# Altium integrated library Motherboard_CMOS_MTJ_Biochip_v1.IntLib: 24 symbols
Pins are listed as number, name and electrical type; pins without a type are passive.

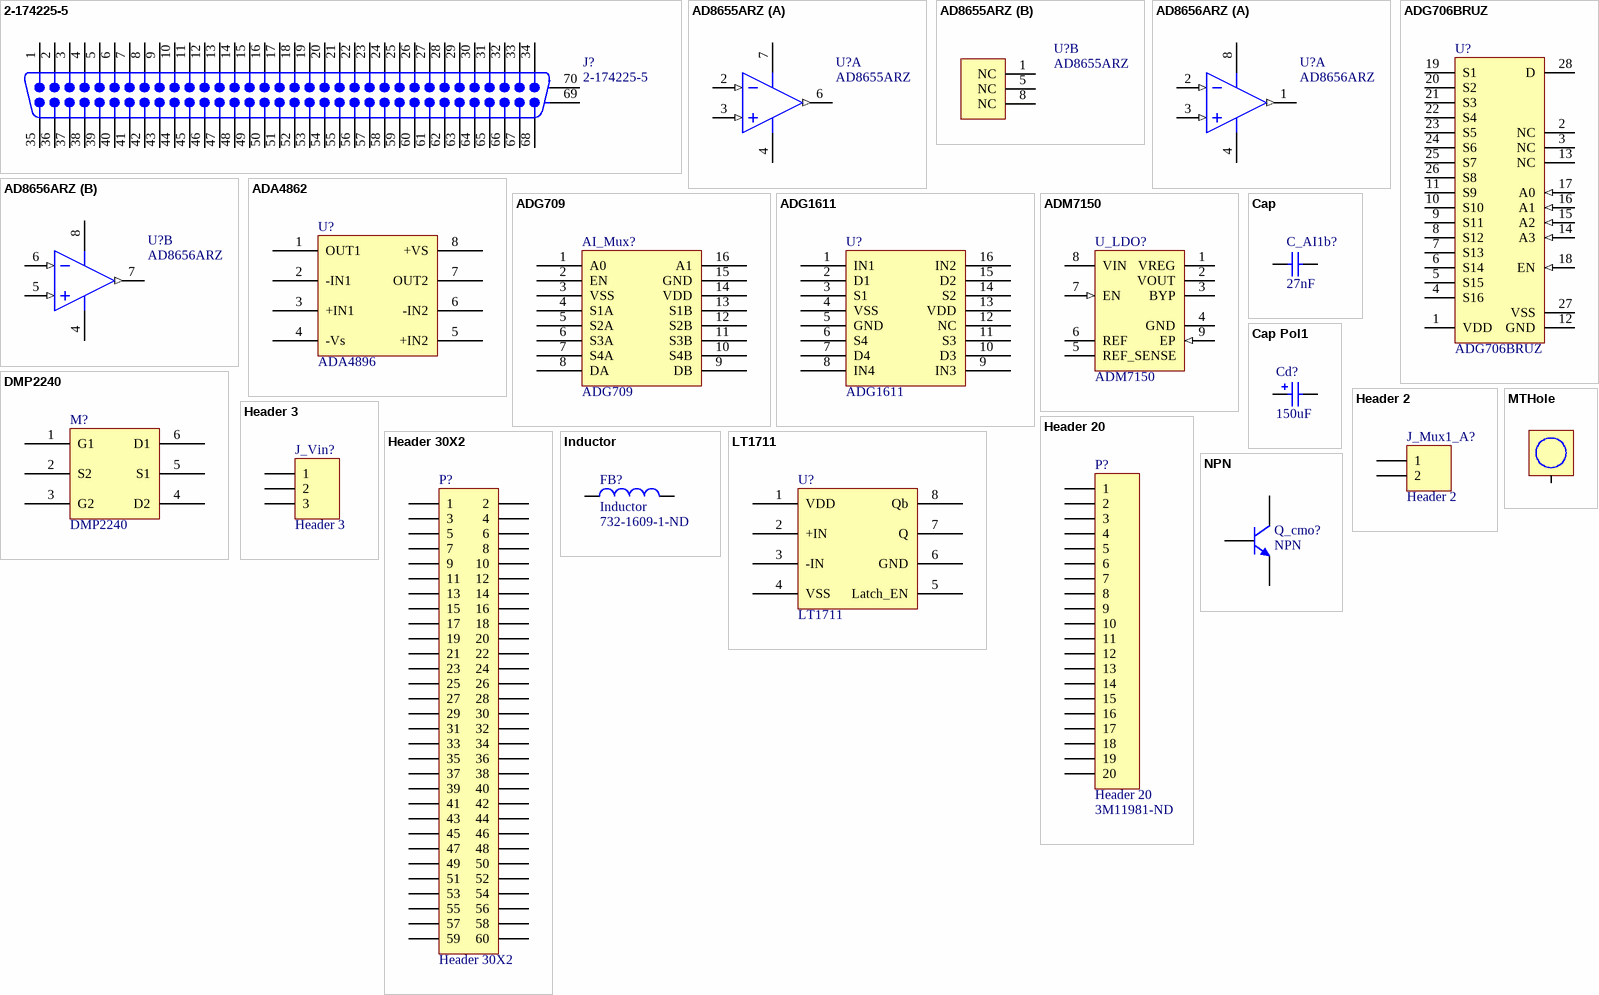
[diagram p0: symbols 2-174225-5 to NPN]

## 2-174225-5
designator J?
Cap Header, Right Angle /M2.5 AMPLIMITE 050 Series II; Positions: 68; Gender: Plug Header; Note: With Mating Lock; PCB_Layout: Complies with manufacturer's recommendation.; DrillSize: Corresponds to nominal value.; Published: 17-Jul-2002; DatasheetDocument: May-1991; PackageDocument: 23-May-1991; PackageReference: 2-174225-5; Publisher: Altium Limited; Orientation: Right Angle; Note: Series II; ComponentLink1Description: Manufacturer Link; ComponentLink1URL: http://www.tycoelectronics.com/; ComponentLink2Description: Packaging Specification; ComponentLink2URL: http://ecommas.tycoelectronics.com/commerce/DocumentDelivery/DDEController?Action=showdoc&DocId=Customer+Drawing%7F174225%7FD%7Fpdf%7FJapanese%7FJPN_CD_174225_D.pdf; ComponentLink3Description: Iges Model; ComponentLink3URL: http://catalog.tycoelectronics.com/TE/docs/cadgeo/0/91/40190.tar.gz
footprint 2-174225-5 (Connector; D Subminiature 050 Series; 68 Position; Right Angle)
signal-integrity model D Subminiature
pins: 1, 2, 3, 4, 5, 6, 7, 8, 9, 10, 11, 12, 13, 14, 15, 16, 17, 18, 19, 20, 21, 22, 23, 24, 25, 26, 27, 28, 29, 30, 31, 32, 33, 34, 35, 36, 37, 38, 39, 40, 41, 42, 43, 44, 45, 46, 47, 48, 49, 50, 51, 52, 53, 54, 55, 56, 57, 58, 59, 60, 61, 62, 63, 64, 65, 66, 67, 68, 69 MH1, 70 MH2

## AD8655ARZ
designator U?
Single Channel Low Offset Voltage Operational Amplifier, 28 MHz BW, 11 V/us SR, Industrial, 8-pin SOIC (R-8), Tube; Generic Part Number: AD8655; Manufacturer: Analog Devices; Amplifiers Per Package: 1; Input Bias Current: 1pA; Input Offset Voltage: 50uV; Iq/Amp: 4.5mA; Slew Rate: 11V/us; Small Signal Bandwidth: 28MHz; V Span Max: 5.5V; V Span Min: 2.7V; DatasheetVersion: Rev. B; PackageVersion: 060506-A; PackageReference: R-8; PackageDescription: 8-Pin Standard Small Outline Package, Body 3.9 x 4.9 mm, Pitch 1.27 mm; Supplier 1: Digi-Key; Supplier Part Number 1: AD8655ARZ-ND; Supplier 2: Newark; Supplier Part Number 2: 59K7052; Mounting Technology: Surface Mount; Code_JEDEC: MS-012-AA; PartNumber: AD8655ARZ; ComponentLink1Description: Manufacturer URL; ComponentLink1URL: http://www.analog.com/en/index.html; ComponentLink2Description: Datasheet; ComponentLink2URL: http://www.analog.com/static/imported-files/data_sheets/AD8655_8656.pdf; ComponentLink3Description: Package Specification; ComponentLink3URL: http://www.analog.com/static/imported-files/packages/PKG_PDF/SOIC_Narrow%20(R)/R_8.pdf; ComponentLink4Description: Reference Circuit; ComponentLink4URL: http://www.analog.com/en/all-operational-amplifiers-op-amps/operational-amplifiers-op-amps/ad8655/products/product.html#product-recommendations
footprint ADI-R-8_N (SOIC, 8-Leads, Body 4.9x3.9mm, Pitch 1.27mm, IPC Medium Density)
footprint ADI-R-8_L (SOIC, 8-Leads, Body 4.9x3.9mm, Pitch 1.27mm, IPC High Density)
footprint ADI-R-8_M (SOIC, 8-Leads, Body 4.9x3.9mm, Pitch 1.27mm, IPC Low Density)
part A pins: 2 -IN (in), 3 +IN (in), 4 -V (power), 6 OUT (out), 7 +V (power)
part B pins: 1 NC, 5 NC, 8 NC

## AD8656ARZ
designator U?
Double Channel RRIO Operational Amplifier, 28 MHz BW, 11 V/us SR, Industrial, 8-pin SOIC (R-8), Tube; Generic Part Number: AD8656; Manufacturer: Analog Devices; Amplifiers Per Package: 2; Automotive Qualified: Yes; Input Bias Current: 1pA; Input Offset Voltage: 50uV; Iq/Amp: 4.5mA; Slew Rate: 11V/us; Small Signal Bandwidth: 28MHz; V Span Max: 5.5V; V Span Min: 2.7V; DatasheetVersion: Rev. B; PackageVersion: 060506-A; PackageReference: R-8; PackageDescription: 8-Pin Standard Small Outline Package, Body 3.9 x 4.9 mm, Pitch 1.27 mm; Supplier 1: Digi-Key; Supplier Part Number 1: AD8656ARZ-ND; Supplier 2: Farnell; Supplier Part Number 2: 1117887; Supplier 3: Newark; Supplier Part Number 3: 19M0993; Mounting Technology: Surface Mount; Code_JEDEC: MS-012-AA; PartNumber: AD8656ARZ; ComponentLink1Description: Manufacturer URL; ComponentLink1URL: http://www.analog.com/en/index.html; ComponentLink2Description: Datasheet; ComponentLink2URL: http://www.analog.com/static/imported-files/data_sheets/AD8655_8656.pdf; ComponentLink3Description: Package Specification; ComponentLink3URL: http://www.analog.com/static/imported-files/packages/PKG_PDF/SOIC_Narrow%20(R)/R_8.pdf
footprint ADI-R-8_N (SOIC, 8-Leads, Body 4.9x3.9mm, Pitch 1.27mm, IPC Medium Density)
footprint ADI-R-8_L (SOIC, 8-Leads, Body 4.9x3.9mm, Pitch 1.27mm, IPC High Density)
footprint ADI-R-8_M (SOIC, 8-Leads, Body 4.9x3.9mm, Pitch 1.27mm, IPC Low Density)
pins on every part: 4 -V (power), 8 +V (power)
part A pins: 1 OUT A (out), 2 -IN A (in), 3 +IN A (in)
part B pins: 5 +IN B (in), 6 -IN B (in), 7 OUT B (out)

## ADA4862
designator U?, comment ADA4896
footprint RM-8 (Shrink Small Outline, MSOP; 8 Leads; Body Width 3 mm; Pitch 0.65 mm)
pins: 1 OUT1, 2 -IN1, 3 +IN1, 4 -Vs, 5 +IN2, 6 -IN2, 7 OUT2, 8 +VS

## ADG706BRUZ
designator U?
1.8 to 5.5 V / 2.5 V, CMOS Low-Voltage 2.5 Ohm, 16-Channel Multiplexer, -40 to 85 degC, 28-pin SOP (RU-28), Tube; Manufacturer: Analog Devices; Bandwidth (Hz): 25M; Max Analog Signal Range: Vss to Vdd; Ron (ohms): 2.5; Supply V Guar Performance: Dual_(+/-2.5V), Single_(+3V), Single_(+5V); t transition (s): 40n; DatasheetVersion: Rev. A; PackageVersion: Mar-05; PackageReference: RU-28; PackageDescription: 28-Pin Thin Shrink Small Outline Package, Body 9.7 x 4.4 mm, Pitch 0.65 mm; Supplier 1: Digi-Key; Supplier Part Number 1: ADG706BRUZ-ND; Supplier 2: Farnell; Supplier Part Number 2: 9604332; Supplier 3: Newark; Supplier Part Number 3: 19M0682; Supplier 4: Mouser; Supplier Part Number 4: 584-ADG706BRUZ; Packing: Tube; Mounting Technology: Surface Mount; Code_JEDEC: MO-153-AE; PartNumber: ADG706BRUZ; ComponentLink1Description: Manufacturer URL; ComponentLink1URL: http://www.analog.com/en/index.html; ComponentLink2Description: Datasheet; ComponentLink2URL: http://www.analog.com/static/imported-files/data_sheets/ADG706_707.pdf; ComponentLink3Description: Package Specification; ComponentLink3URL: http://www.analog.com/static/imported-files/packages/249854663RU_28.pdf
footprint ADI-RU-28_N (SOP, 28-Leads, Body 9.7x4.4mm, Pitch 0.65mm, IPC Medium Density)
footprint ADI-RU-28_L (SOP, 28-Leads, Body 9.7x4.4mm, Pitch 0.65mm, IPC High Density)
footprint ADI-RU-28_M (SOP, 28-Leads, Body 9.7x4.4mm, Pitch 0.65mm, IPC Low Density)
pins: 1 VDD (power) "Most Positive Power Supply Potential.", 2 NC "No Connect.", 3 NC "No Connect.", 4 S16 "Source Terminal 16. Can be an input or an output.", 5 S15 "Source Terminal 15. Can be an input or an output.", 6 S14 "Source Terminal 14. Can be an input or an output.", 7 S13 "Source Terminal 13. Can be an input or an output.", 8 S12 "Source Terminal 12. Can be an input or an output.", 9 S11 "Source Terminal 11. Can be an input or an output.", 10 S10 "Source Terminal 10. Can be an input or an output.", 11 S9 "Source Terminal 9. Can be an input or an output.", 12 GND (power) "Ground (0 V) Reference.", 13 NC "No Connect.", 14 A3 (in) "Logic Control Input.", 15 A2 (in) "Logic Control Input.", 16 A1 (in) "Logic Control Input.", 17 A0 (in) "Logic Control Input.", 18 EN (in) "Active High Digital Input. When this pin is low, the device is disabled and all switches are turned off. When this pin is high, the Ax logic inputs determine which switch is turned on.", 19 S1 "Source Terminal 1. Can be an input or an output.", 20 S2 "Source Terminal 2. Can be an input or an output.", 21 S3 "Source Terminal 3. Can be an input or an output.", 22 S4 "Source Terminal 4. Can be an input or an output.", 23 S5 "Source Terminal 5. Can be an input or an output.", 24 S6 "Source Terminal 6. Can be an input or an output.", 25 S7 "Source Terminal 7. Can be an input or an output.", 26 S8 "Source Terminal 8. Can be an input or an output.", 27 VSS (power) "Most Negative Power Supply Potential. In single-supply applications, this pin can be connected to ground.", 28 D "Drain Terminal. Can be an input or an output."

## ADG709
designator AI_Mux?
footprint RU-16 (Shrink Small Outline; 16 Leads; Body Width 4.4 mm; Pitch 0.65 mm)
pins: 1 A0, 2 EN, 3 VSS, 4 S1A, 5 S2A, 6 S3A, 7 S4A, 8 DA, 9 DB, 10 S4B, 11 S3B, 12 S2B, 13 S1B, 14 VDD, 15 GND, 16 A1

## ADG1611
designator U?
footprint RU-16 (Shrink Small Outline; 16 Leads; Body Width 4.4 mm; Pitch 0.65 mm)
pins: 1 IN1, 2 D1, 3 S1, 4 VSS, 5 GND, 6 S4, 7 D4, 8 IN4, 9 IN3, 10 D3, 11 S3, 12 NC, 13 VDD, 14 S2, 15 D2, 16 IN2

## ADM7150
designator U_LDO?
800 mA Ultralow Noise, High PSRR, RF Linear Regulator; Manufacturer: Analog Devices; PartNumber: ADP1707ARDZ-3.3-R7; Iout max: 1A; Packing: Reel; Preset Vout Values (V): 1.8; Supply Current IGND @ Small Load: 50uA; Vin (max) (V): 5.5; Vin (min) (V): 2.5; DatasheetVersion: Rev. 0; PackageVersion: Jan-05; PackageReference: RD-8-2; PackageDescription: 8-Pin Standard Small Outline Package, Body 4.9 x 3.9 mm, Pitch 1.27 mm; Supplier 1: Digi-Key; Supplier Part Number 1: ADP1707ARDZ-3.3-R7TR-ND; Supplier 2: Digi-Key; Supplier Part Number 2: ADP1707ARDZ-3.3-R7CT-ND; Supplier 3: Digi-Key; Supplier Part Number 3: ADP1707ARDZ-3.3-R7DKR-ND; Supplier 4: Mouser; Supplier Part Number 4: 584-ADP1707ARDZ3.3R7; Mounting Technology: Surface Mount; Code_JEDEC: MS-012-AA; ComponentLink1Description: Manufacturer URL; ComponentLink1URL: http://www.analog.com/en/index.html; ComponentLink2Description: Datasheet; ComponentLink2URL: http://www.analog.com/static/imported-files/data_sheets/ADP1706_1707_1708.pdf; ComponentLink3Description: Package Specification; ComponentLink3URL: http://www.analog.com/static/imported-files/packages/62062404671038RD_8_2.pdf; ComponentLink4Description: URL Link1; ComponentLink4URL: Product URL:http://www.analog.com/en/ADP1707/productSearch.html
footprint ADM7150
pins: 1 VREG "Regulated Output Voltage. Bypass VOUT to GND with a 1 uF or greater capacitor.", 2 VOUT "Regulated Output Voltage. Bypass VOUT to GND with a 1 uF or greater capacitor.", 3 BYP "Feedback Node for the Error Amplifier. Connect the midpoint of an external divider from VOUT to GND to this pin to set the output voltage", 4 GND "Ground.", 5 REF_SENSE "Regulator Input Supply. Bypass VIN to GND with a 1 uF or greater capacitor.", 6 REF "No Connect. This pin is not connected internally.", 7 EN (in) "Enable Input. Drive EN high to turn on the regulator; drive EN low to turn off the regulator. For automatic startup, connect EN to VIN.", 8 VIN "Regulator Input Supply. Bypass VIN to GND with a 1 uF or greater capacitor.", 9 EP (in) "The exposed pad must be connected to ground."

## Cap
designator C_AI1b?  value 27nF  (hidden comment: Cap)
Capacitor; Published: 8-Jun-2000; LatestRevisionDate: 17-Jul-2002; LatestRevisionNote: Re-released for DXP Platform.; PackageReference: RAD-0.3; Publisher: Altium Limited; PackageDescription: Radial Cap, Thru-Hole; 2 Leads; 0.3 in Pin Spacing; Digi-Key: 445-7534-1-ND
footprint RAD-0.3 (Radial Cap, Thru-Hole; 2 Leads; 0.3 in Pin Spacing)
simulation model CAP (Capacitor)
signal-integrity model Cap
footprint 6-0805_M
footprint 1608[0603] (Chip Capacitor, Body 1.6x0.8mm, IPC High Density)
pins: 1, 2

## Cap Pol1
designator Cd?  value 150uF  (hidden comment: Cap Pol1)
Polarized Capacitor (Radial); Published: 8-Jun-2000; LatestRevisionDate: 17-Jul-2002; LatestRevisionNote: Re-released for DXP Platform.; PackageReference: RB7.6-15; Publisher: Altium Limited; PackageDescription: Polarized Capacitor (Radial); 2 Leads; Digikey PN: 478-3349-1-ND
footprint C1210_M (Chip Capacitor, Body 3.2x2.5mm, IPC Low Density)
simulation model CAP (Capacitor)
signal-integrity model Cap Pol
pins: 1, 2
1 alternate drawing of the same symbol

## DMP2240
designator M?
footprint SO-G6/E2.4 (Small Outline; 6 Leads; Body 3.6 x 3.6 mm, inc. leads (LxW max))
pins: 1 G1, 2 S2, 3 G2, 4 D2, 5 S1, 6 D1

## Header 2
designator J_Mux1_A?
Header, 2-Pin; LatestRevisionDate: 17-Jul-2002; LatestRevisionNote: Re-released for DXP Platform.; Publisher: Altium Limited
footprint HDR1X2 (Connector; Header; 2 Position)
signal-integrity model Connector
pins: 1, 2

## Header 3
designator J_Vin?
Header, 3-Pin; LatestRevisionDate: 17-Jul-2002; LatestRevisionNote: Re-released for DXP Platform.; Publisher: Altium Limited
footprint HDR1X3 (Connector; Header; 3 Position)
signal-integrity model Connector
pins: 1, 2, 3

## Header 20
designator P?  Supplier Part Number 1: 3M11981-ND
Header, 20-Pin; Manufacturer: 3M; Manufacturer Part Number: N3428-6203RB; Connector Type: Header, Shrouded; Number of Positions: 20; Number of Positions Loaded: All; Pitch: 0.100" (2.54mm); LatestRevisionDate: 17-Jul-2002; LatestRevisionNote: Re-released for DXP Platform.; Publisher: Altium Limited; Supplier 1: Digi-Key; RoHS: RoHS Compliant; Category: Connectors, Interconnects; Stock 1: 110; Pricing 1: 1=3.25, 10=3.12, 25=2.86, 50=2.73, 100=2.6, 250=2.275, 500=2.21, 1000=1.885, 2500=1.755 (USD); Packaging: Bulk; Contact Type: Male Pin; Number of Rows: 2; Row Spacing: 0.100" (2.54mm); Contact Mating Length: 0.240" (6.10mm); Mounting Type: Through Hole; Termination: Solder; Fastening Type: Latch, Short/Eject Hooks; Features: -; Contact Finish: Gold; Contact Finish Thickness: 30µin (0.76µm); Color: Black; ComponentLink1URL: http://multimedia.3m.com/mws/mediawebserver?66666UuZjcFSLXTt4Xfym8s6EVuQEcuZgVs6EVs6E666666--; ComponentLink1Description: http://multimedia.3m.com/mws/mediawebserver?66666UuZjcFSLXTt4Xfym8s6EVuQEcuZgVs6EVs6E666666--
footprint HDR2X10 (Connector; Header; 10x2 Position)
signal-integrity model Connector
pins: 1, 2, 3, 4, 5, 6, 7, 8, 9, 10, 11, 12, 13, 14, 15, 16, 17, 18, 19, 20

## Header 30X2
designator P?
Header, 30-Pin, Dual row; LatestRevisionDate: 17-Jul-2002; LatestRevisionNote: Re-released for DXP Platform.; Publisher: Altium Limited
footprint HDR2X30 (Connector; Header; 30x2 Position)
signal-integrity model Connector
pins: 1, 2, 3, 4, 5, 6, 7, 8, 9, 10, 11, 12, 13, 14, 15, 16, 17, 18, 19, 20, 21, 22, 23, 24, 25, 26, 27, 28, 29, 30, 31, 32, 33, 34, 35, 36, 37, 38, 39, 40, 41, 42, 43, 44, 45, 46, 47, 48, 49, 50, 51, 52, 53, 54, 55, 56, 57, 58, 59, 60

## Inductor
designator FB?  Supplier Part Number 1: 732-1609-1-ND
Manufacturer: Wurth Electronics Inc; Manufacturer Part Number: 742792093; Code_IEC: 1005; Value: 10mH; Impedance @ Frequency: 2.2 kOhm @ 100MHz; Current Rating: 200mA; DC Resistance (DCR): 600 mOhm Max; Filter Type: Differential Mode - Single; Published: 8-Jun-2000; LatestRevisionDate: 29-May-2009; LatestRevisionNote: IPC-7351 Footprint Added.; PackageReference: 0402-A; Publisher: Altium Limited; PackageDescription: Chip Inductor; Code_JEITA: 0402; Supplier 1: Digi-Key; RoHS: RoHS Compliant; Category: Filters; Stock 1: 48274; Pricing 1: 1=0.23, 50=0.2188, 100=0.2013, 500=0.1925, 1000=0.18375, 2000=0.175 (USD); Packaging: Cut Tape (CT); Package / Case: 0805 (2012 Metric); Mounting Type: Surface Mount; Height (Max): 0.043" (1.10mm); Size / Dimension: 0.079" L x 0.047" W (2.00mm x 1.20mm); ComponentLink1URL: http://katalog.we-online.de/pbs/datasheet/742792093.pdf; ComponentLink1Description: http://katalog.we-online.de/pbs/datasheet/742792093.pdf
footprint 0402-A (Chip Inductor, Body 1.0x0.5mm, IPC High Density)
footprint INDC1608L (Chip Inductor, Body 1.6x0.8mm, IPC High Density)
footprint 2029 (Chip Inductor, Body 2.0x1.2mm, IPC High Density)
footprint 0603 (Chip Inductor, Body 0.6x0.3mm, IPC High Density)
footprint INDC3216 (Chip Inductor, Body 3.2x1.6mm, IPC High Density)
footprint INDC4532 (Chip Inductor, Body 4.5x3.2mm, IPC High Density)
simulation model INDUCTOR (Inductor)
signal-integrity model Inductor
footprint C0805 (Chip Capacitor, Body 2.0x1.3mm, IPC High Density)
pins: 1, 2

## LT1711
designator U?
footprint RM-8 (Shrink Small Outline, MSOP; 8 Leads; Body Width 3 mm; Pitch 0.65 mm)
pins: 1 VDD, 2 +IN, 3 -IN, 4 VSS, 5 Latch_EN, 6 GND, 7 Q, 8 Qb

## MTHole
designator H?, comment Mounting Hole  (value not drawn)
footprint MTHole
pins: 1

## NPN
designator Q_cmo?
NPN Bipolar Transistor; Published: 8-Jun-2000; LatestRevisionDate: 17-Jul-2002; LatestRevisionNote: Re-released for DXP Platform.; PackageReference: TO-226-AA; Publisher: Altium Limited; PackageDescription: TO, Flat Index; 3 In-Line, Axial Leads; Body Dia. 4.8mm; Leads 0.55 x 0.51 mm (max); Code_JEDEC: TO-226-AA
footprint SOT-23_M (SOT23, 3-Leads, Body 2.9x1.3mm, Pitch 0.95mm, Lead Span 2.5mm, IPC Low Density); pin to pad 1>3 2>1 3>2
simulation model NPN
signal-integrity model NPN
pins: 1 C, 2 B, 3 E

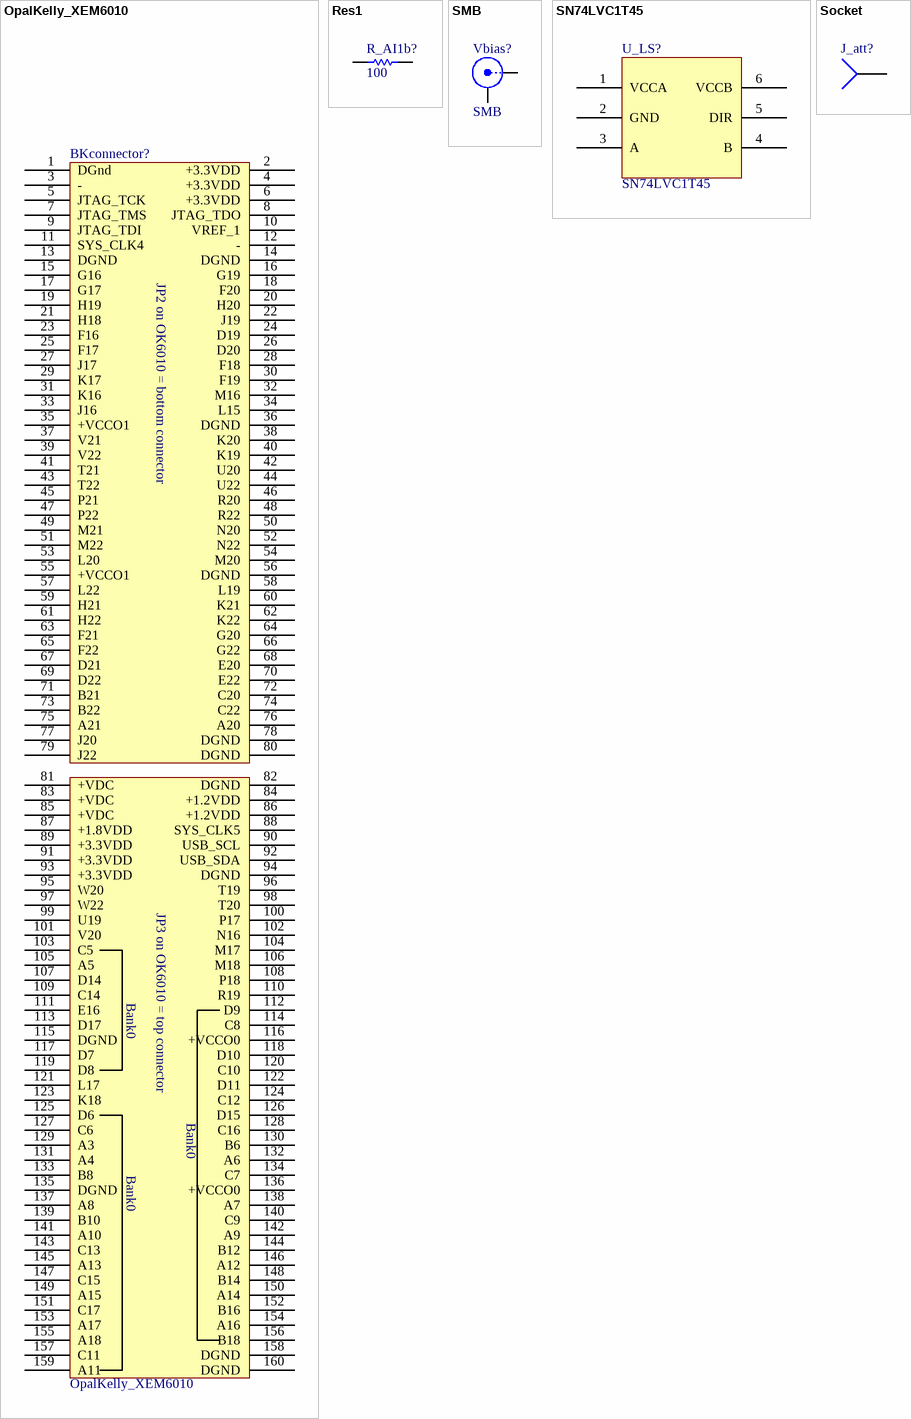
[diagram p1: symbols OpalKelly_XEM6010 to Socket]

## OpalKelly_XEM6010
designator BKconnector?
footprint OpalKelly_XEM6010
pins: 1 DGnd, 2 +3.3VDD, 3 -, 4 +3.3VDD, 5 JTAG_TCK, 6 +3.3VDD, 7 JTAG_TMS, 8 JTAG_TDO, 9 JTAG_TDI, 10 VREF_1, 11 SYS_CLK4, 12 -, 13 DGND, 14 DGND, 15 G16, 16 G19, 17 G17, 18 F20, 19 H19, 20 H20, 21 H18, 22 J19, 23 F16, 24 D19, 25 F17, 26 D20, 27 J17, 28 F18, 29 K17, 30 F19, 31 K16, 32 M16, 33 J16, 34 L15, 35 +VCCO1, 36 DGND, 37 V21, 38 K20, 39 V22, 40 K19, 41 T21, 42 U20, 43 T22, 44 U22, 45 P21, 46 R20, 47 P22, 48 R22, 49 M21, 50 N20, 51 M22, 52 N22, 53 L20, 54 M20, 55 +VCCO1, 56 DGND, 57 L22, 58 L19, 59 H21, 60 K21, 61 H22, 62 K22, 63 F21, 64 G20, 65 F22, 66 G22, 67 D21, 68 E20, 69 D22, 70 E22, 71 B21, 72 C20, 73 B22, 74 C22, 75 A21, 76 A20, 77 J20, 78 DGND, 79 J22, 80 DGND, 81 +VDC, 82 DGND, 83 +VDC, 84 +1.2VDD, 85 +VDC, 86 +1.2VDD, 87 +1.8VDD, 88 SYS_CLK5, 89 +3.3VDD, 90 USB_SCL, 91 +3.3VDD, 92 USB_SDA, 93 +3.3VDD, 94 DGND, 95 W20, 96 T19, 97 W22, 98 T20, 99 U19, 100 P17, 101 V20, 102 N16, 103 C5, 104 M17, 105 A5, 106 M18, 107 D14, 108 P18, 109 C14, 110 R19, 111 E16, 112 D9, 113 D17, 114 C8, 115 DGND, 116 +VCCO0, 117 D7, 118 D10, 119 D8, 120 C10, 121 L17, 122 D11, 123 K18, 124 C12, 125 D6, 126 D15, 127 C6, 128 C16, 129 A3, 130 B6, 131 A4, 132 A6, 133 B8, 134 C7, 135 DGND, 136 +VCCO0, 137 A8, 138 A7, 139 B10, 140 C9, 141 A10, 142 A9, 143 C13, 144 B12, 145 A13, 146 A12, 147 C15, 148 B14, 149 A15, 150 A14, 151 C17, 152 B16, 153 A17, 154 A16, 155 A18, 156 B18, 157 C11, 158 DGND, 159 A11, 160 DGND
text: JP2 on OK6010 = bottom connector; JP3 on OK6010 = top connector; Bank0

## Res1
designator R_AI1b?  value 100  (hidden comment: Res1)
Resistor; Published: 8-Jun-2000; LatestRevisionDate: 17-Jul-2002; LatestRevisionNote: Re-released for DXP Platform.; PackageReference: AXIAL-0.3; Publisher: Altium Limited; PackageDescription: Axial Device, Thru-Hole; 2 Leads; 0.3 in Pin Spacing; Digikey PN: P1.00KCCT-ND
footprint AXIAL-0.3 (Axial Device, Thru-Hole; 2 Leads; 0.3 in Pin Spacing)
simulation model RESISTOR (Resistor)
signal-integrity model Res
footprint 6-0805_M
footprint 1608[0603] (Chip Capacitor, Body 1.6x0.8mm, IPC High Density)
pins: 1, 2

## SMB
designator Vbias?
SMB Straight Connector; LatestRevisionDate: 17-Jul-2002; LatestRevisionNote: Re-released for DXP Platform.; Publisher: Altium Limited
footprint SMB_V-RJ45 (Connector; SMB Straight)
signal-integrity model Connector
pins: 1 X, 2 Y

## SN74LVC1T45
designator U_LS?
footprint SO-G6/P.95 (SOT-457/SC-74; 6 Leads; Body 3.1 x 3 mm, inc. leads (LxW max))
pins: 1 VCCA, 2 GND, 3 A, 4 B, 5 DIR, 6 VCCB

## Socket
designator J_att?  (value not drawn)
LatestRevisionDate: 17-Jul-2002; LatestRevisionNote: Re-released for DXP Platform.; Publisher: Altium Limited
footprint PIN1 (Connector; Socket)
signal-integrity model Connector
pins: 1